# Altium footprint library Footprints.PcbLib: 3 footprints
Each footprint in its own frame and in the unit in brackets; x right, y up, seen from the top. Pads: shape width x height; smd on the part's side, far side on the other; paste and mask are expansions set on the pad; w line width, h text height; cw(c..) or ccw(c..) is an arc to the next point about the centre after c.
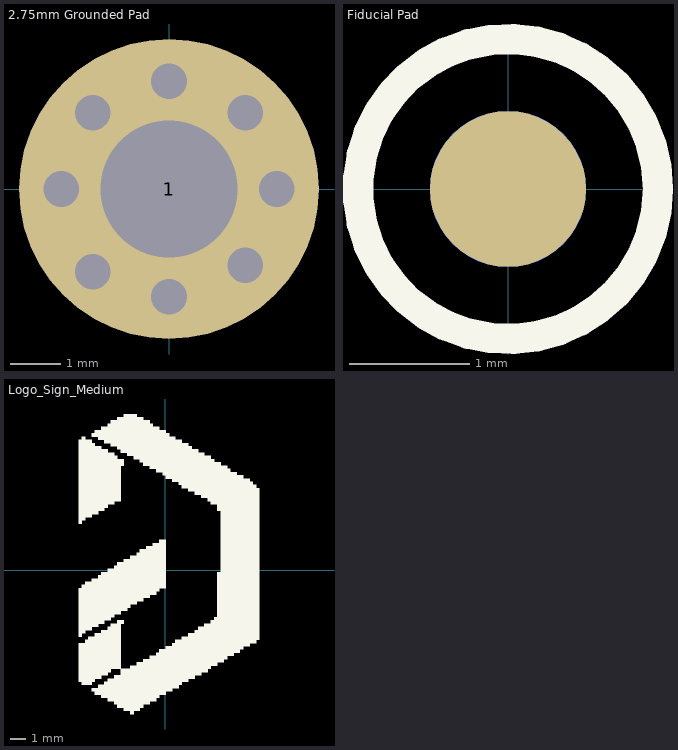
[diagram p0: the footprints below, top view; thin cyan lines are the x and y axes]

## 2.75mm Grounded Pad [mm]
pads (1):
  round 6 hole 2.75: 1(0,0)
via 0,-2.159 diameter 1.27 hole 0.711
via 0,2.159 diameter 1.27 hole 0.711
via 2.159,0 diameter 1.27 hole 0.711
via -2.159,0 diameter 1.27 hole 0.711
via -1.524,1.524 diameter 1.27 hole 0.711
via 1.524,-1.524 diameter 1.27 hole 0.711
via 1.524,1.524 diameter 1.27 hole 0.711
via -1.524,-1.651 diameter 1.27 hole 0.711

## Fiducial Pad [mm]
pads (2):
  round 1.3 smd: ""(0,0)
  round 1.3 smd far side: ""(0,0)
Top Overlay:
  circle w0.254: c0,0 r1.251

## Logo_Sign_Medium [mm]
Top Overlay:
  drawing of 3 lines, arcs and shapes, not listed